# Altium schematic symbol library HT-T169USD_Red.SchLib: 1 symbol
Pins are listed as number, name and electrical type; pins without a type are passive.

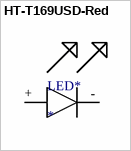
[diagram p0: symbol HT-T169USD-Red]

## HT-T169USD-Red
designator LED*
Red Led
footprint HT-T169USD_RED (Chip LED white, 2-Leads, Body 3.50x2.70mm, IPC Medium Density)
pins: +, -